# EAGLE library part WE-LPF_0603 (library Wurth_Elektronik_Passive_rev15b)
Multilayer Chip Low-Pass Filter Characteristics Operating temperature: –40 °C to +85 °C Power capacity up to 3 W Low insertion loss and high attenuation in the stop-band Applications RF applications Wireless communication systems like DECT, PACS, PHS, GSM, WLAN, Bluetooth … <http://katalog.we-online.de/media/images/eisos/RfLPF_pf2.jpg> Details see: http://katalog.we-online.de/en/pbs/WE-LPF? Updated by Dan Xu 2014-07-08 2014 (C) Wurth Elektronik
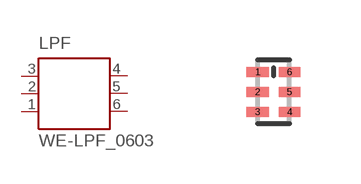
[diagram p14: symbol with the pads of WE-LPF_0603; footprint WE-LPF_0603]

Designator prefix LPF

## WE-LPF_0603  [WE-LPF_0603]
1  1  pas
2  2  pas
3  3  pas
4  4  pas
5  5  pas
6  6  pas

## Footprint WE-LPF_0603 (pad centres in mm)
Multilayer Chip Low-Pass Filters WE-LPF
smd 0.55 x 0.25: 1 -0.4,0.5; 2 -0.4,0; 3 -0.4,-0.5; 4 0.4,-0.5; 5 0.4,0; 6 0.4,0.5